# EAGLE library part MCP4017 (library MCP4017)
Digital potentiometer
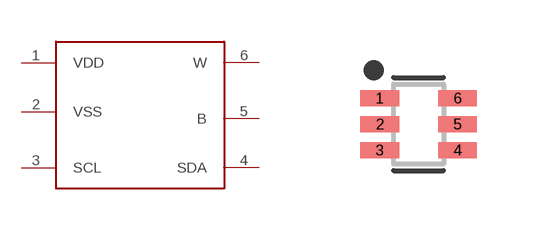
[diagram p0: symbol with the pads of SOT65P210X110-6N; footprint SOT65P210X110-6N]

Designator prefix -

## MCP4017  [SOT65P210X110-6N]
1  VDD
2  VSS
3  SCL
4  SDA
5  B
6  W

## Footprint SOT65P210X110-6N (pad centres in mm)
6-SOT23, 0.65 mm pitch, 2.10 mm span, 2.00 X 1.25 X 1.10 mm body 6-pin SOT23 package with 0.65 mm pitch, 2.10 mm span with body size 2.00 X 1.25 X 1.10 mm
smd 0.969 x 0.397: 1 -0.971,0.65; 2 -0.971,0; 3 -0.971,-0.65; 4 0.971,-0.65; 5 0.971,0; 6 0.971,0.65